# Altium schematic symbol library Sheet_1.SCHLIB: 23 symbols
Pins are listed as number, name and electrical type; pins without a type are passive.

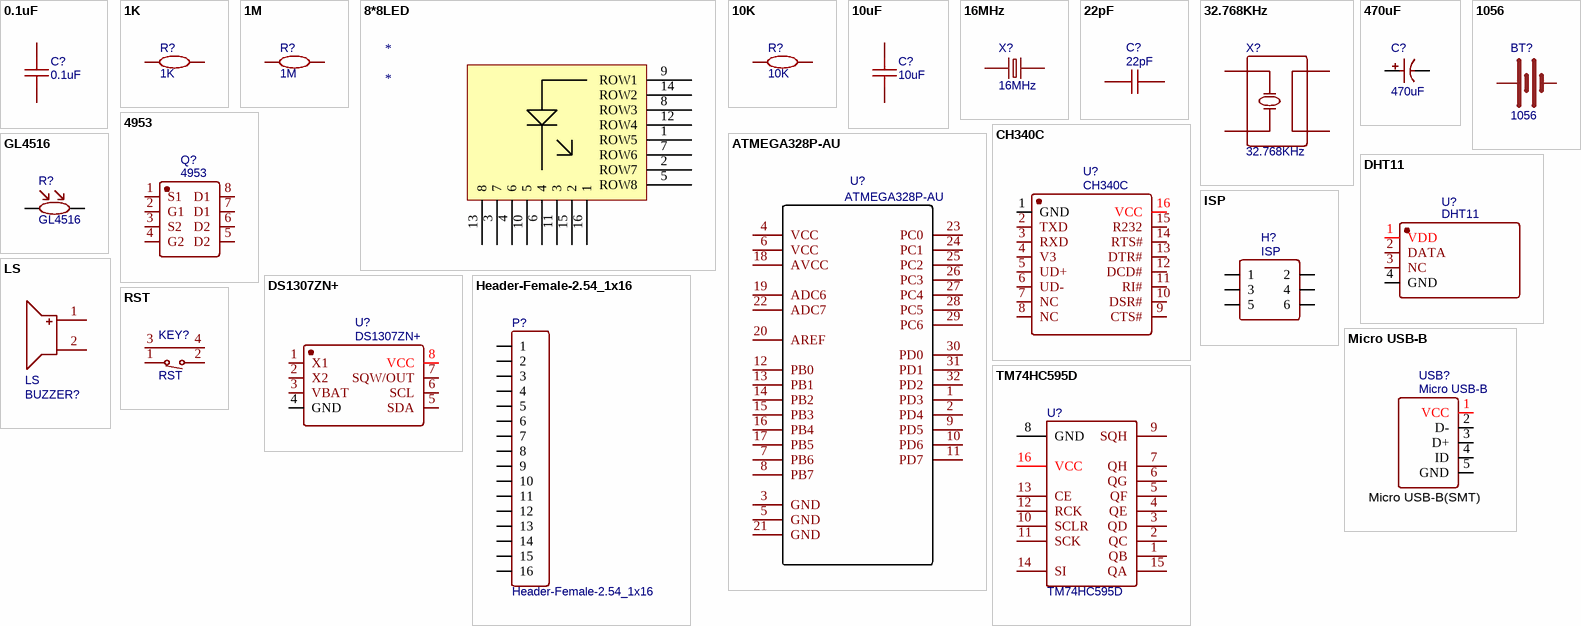
[diagram p0: symbols 0.1uF to TM74HC595D]

## 0.1uF
designator C?
BOM_Manufacturer: TORCH; BOM_Manufacturer Part: CT41-0603-2F4-50V-0.1uF-M(N); nameAlias: Capacitance; Contributor: LCSC; BOM_Supplier: LCSC; BOM_Supplier Part: C138344; spicePre: C; spiceSymbolName: CT41-0603-2F4-50V-0.1UF-M(N)
footprint 0603
pins: 1, 2

## 1K
designator R?
BOM_Manufacturer: Ever Ohms Tech; BOM_Manufacturer Part: TR0603B1KP0525; nameAlias: Resistance (Ohms); Contributor: LCSC; BOM_Supplier: LCSC; BOM_Supplier Part: C188364; spicePre: R; spiceSymbolName: TR0603B1KP0525
footprint 0603
pins: 1, 2

## 1M
designator R?
BOM_Manufacturer: Ever Ohms Tech; BOM_Manufacturer Part: TR0603B1KP0525; nameAlias: Resistance (Ohms); Contributor: LCSC; BOM_Supplier: LCSC; BOM_Supplier Part: C188364; spicePre: R; spiceSymbolName: TR0603B1KP0525
footprint 0603
pins: 1, 2

## 8*8LED
designator *
pins: 1 ROW5, 2 ROW7, 3 7, 4 6, 5 ROW8, 6 4, 7 ROW6, 8 ROW3, 9 ROW1, 10 5, 11 3, 12 ROW4, 13 8, 14 ROW2, 15 2, 16 1

## 10K
designator R?
BOM_Manufacturer: Ever Ohms Tech; BOM_Manufacturer Part: TR0603B1KP0525; nameAlias: Resistance (Ohms); Contributor: LCSC; BOM_Supplier: LCSC; BOM_Supplier Part: C188364; spicePre: R; spiceSymbolName: TR0603B1KP0525
footprint 0603
pins: 1, 2

## 10uF
designator C?
BOM_Manufacturer: TORCH; BOM_Manufacturer Part: CT41-0603-2F4-50V-0.1uF-M(N); nameAlias: Capacitance; Contributor: LCSC; BOM_Supplier: LCSC; BOM_Supplier Part: C138344; spicePre: C; spiceSymbolName: CT41-0603-2F4-50V-0.1UF-M(N)
footprint 0603
pins: 1, 2

## 16MHz
designator X?
BOM_Manufacturer: TAITIEN Elec; BOM_Manufacturer Part: XIHCELNANF-16MHZ; nameAlias: Frequency; Contributor: LCSC; BOM_Supplier: LCSC; BOM_Supplier Part: C295075; spicePre: X; spiceSymbolName: XIHCELNANF-16MHZ
footprint 49S-CRYSTAL
pins: 1, 2

## 22pF
designator C?
BOM_Manufacturer: FH; BOM_Manufacturer Part: 0603CG220J500NT; nameAlias: Capacitance; BOM_Supplier: LCSC; BOM_Supplier Part: C91701; spicePre: C; spiceSymbolName: 0603CG220J500NT
footprint 0603
pins: 1, 2

## 32.768KHz
designator X?
BOM_Manufacturer: EPSON; BOM_Manufacturer Part: MC-14632.768kHz7.0pF20PPM; nameAlias: Frequency; Contributor: LCSC; BOM_Supplier: LCSC; BOM_Supplier Part: C94977; spicePre: X; spiceSymbolName: MC-14632.768kHz7.0pF20PPM
footprint MC-146
pins: 1 OSC1, 2 GND, 3 GND, 4 OSC2

## 470uF
designator C?
BOM_Manufacturer: KEMET; BOM_Manufacturer Part: T520D477M006ATE025; nameAlias: Capacitance; Contributor: LCSC; SMT Type: Extend; BOM_Supplier: LCSC; BOM_Supplier Part: C156460; BOM_LCSC Assembly: Yes; spicePre: C; spiceSymbolName: T520D477M006ATE025
footprint CASE-D_7343
pins: 1, 2

## 1056
designator BT?
BOM_Manufacturer: Keystone; Contributor: LCSC; BOM_Supplier: LCSC; BOM_Supplier Part: C238067; BOM_Manufacturer Part: 1056; spicePre: B
footprint KEYSTONE_1056
pins: 1 +, 2 -

## 4953
designator Q?
BOM_Manufacturer: Hottech; Contributor: LCSC; SMT Type: Extend; BOM_Supplier: LCSC; BOM_Manufacturer Part: 4953; BOM_Supplier Part: C181099; BOM_LCSC Assembly: Yes; spicePre: Q
footprint SOP-8
pins: 1 S1, 2 G1, 3 S2, 4 G2, 5 D2, 6 D2, 7 D1, 8 D1

## ATMEGA328P-AU
designator U?
BOM_Manufacturer: MICROCHIP; SMT Type: Extend; BOM_Supplier: LCSC; BOM_Manufacturer Part: ATMEGA328P-AU; image: //image.lceda.cn/szlcsc/C14877.jpg; BOM_Supplier Part: C14877; BOM_LCSC Assembly: Yes; spicePre: U
footprint TQFP-32_7X7X08P
pins: 1 PD3, 2 PD4, 3 GND, 4 VCC, 5 GND, 6 VCC, 7 PB6, 8 PB7, 9 PD5, 10 PD6, 11 PD7, 12 PB0, 13 PB1, 14 PB2, 15 PB3, 16 PB4, 17 PB5, 18 AVCC, 19 ADC6, 20 AREF, 21 GND, 22 ADC7, 23 PC0, 24 PC1, 25 PC2, 26 PC3, 27 PC4, 28 PC5, 29 PC6, 30 PD0, 31 PD1, 32 PD2

## CH340C
designator U?
BOM_Manufacturer: WCH; BOM_Supplier: LCSC; BOM_Manufacturer Part: CH340C; BOM_Supplier Part: C84681; spicePre: U
footprint SOP-16_150MIL
pins: 1 GND, 2 TXD, 3 RXD, 4 V3, 5 UD+, 6 UD-, 7 NC, 8 NC, 9 CTS#, 10 DSR#, 11 RI#, 12 DCD#, 13 DTR#, 14 RTS#, 15 R232, 16 VCC

## DHT11
designator U?
BOM_Manufacturer: Aosong (Guangzhou) Elec; Contributor: LCSC; BOM_Supplier: LCSC; BOM_Supplier Part: C117051; BOM_Manufacturer Part: DHT11; spicePre: U
footprint DHT11
pins: 1 VDD, 2 DATA, 3 NC, 4 GND

## DS1307ZN+
designator U?
BOM_Manufacturer: MAXIM; SMT Type: Extend; spicePre: X; BOM_Supplier: LCSC; BOM_Manufacturer Part: DS1307ZN+; image: //image.lceda.cn/szlcsc/C26858.jpg; BOM_Supplier Part: C26858; BOM_LCSC Assembly: Yes
footprint SOP-8_150MIL
pins: 1 X1, 2 X2, 3 VBAT, 4 GND, 5 SDA, 6 SCL, 7 SQW/OUT, 8 VCC

## GL4516
designator R?
BOM_Manufacturer: Senba; nameAlias: Value; BOM_Supplier: LCSC; BOM_Manufacturer Part: GL4516; BOM_Supplier Part: C125632; spicePre: R; spiceSymbolName: GL4516
footprint RES-TH_L4.30-W3.60-L
pins: 1, 2

## Header-Female-2.54_1x16
designator P?
BOM_Manufacturer: BOOMELE; BOM_Manufacturer Part: Female header1*16P pitch 2.54mm; BOM_Supplier: LCSC; image: //image.lceda.cn/szlcsc/C66987.jpg; BOM_Supplier Part: C66987; spicePre: P
footprint HDR-16X1/2.54
pins: 1, 2, 3, 4, 5, 6, 7, 8, 9, 10, 11, 12, 13, 14, 15, 16

## ISP
designator H?
BOM_Manufacturer: CONNFLY; BOM_Manufacturer Part: DS1023-2*3SF11; Contributor: LCSC; BOM_Supplier: LCSC; BOM_Supplier Part: C92272; spicePre: H
footprint HDR-3X2/2.54
pins: 1, 2, 3, 4, 5, 6

## LS
designator BUZZER?
BOM_Manufacturer: INGHAi; BOM_Manufacturer Part: GMD12095YB-24V2400; Contributor: LCSC; BOM_Supplier: LCSC; BOM_Supplier Part: C252943; spicePre: B
footprint BUZZER-R6.0-2P-7.6MM
pins: 1, 2

## Micro USB-B
designator USB?
BOM_Manufacturer: ValuePro; BOM_Manufacturer Part: Micro USB-B 5P_C40942; BOM_Supplier: LCSC; image: //image.lceda.cn/szlcsc/C40942.jpg; BOM_Supplier Part: C40942; spicePre: U
footprint MICRO-USB-12
pins: 1 VCC, 2 D-, 3 D+, 4 ID, 5 GND
text: Micro USB-B(SMT)

## RST
designator KEY?
BOM_Manufacturer: BBJ; BOM_Manufacturer Part: Switch,6*6*5Plastic head,260G, 0.25mm,Side foot; BOM_Supplier Part: C71832; BOM_Supplier: LCSC; spicePre: K
footprint SW-TH_BBJ6X6X5PH260G
pins: 1, 2, 3, 4

## TM74HC595D
designator U?
BOM_Manufacturer: TM; SMT Type: Extend; BOM_Supplier: LCSC; BOM_Manufacturer Part: TM74HC595D; BOM_Supplier Part: C79097; BOM_LCSC Assembly: Yes; spicePre: U
footprint SOP-16_150MIL
pins: 1 QB, 2 QC, 3 QD, 4 QE, 5 QF, 6 QG, 7 QH, 8 GND, 9 SQH, 10 SCLR, 11 SCK, 12 RCK, 13 CE, 14 SI, 15 QA, 16 VCC